# Altium footprint library Other.PcbLib: 13 footprints
Each footprint in its own frame and in the unit in brackets; x right, y up, seen from the top. Pads: shape width x height; smd on the part's side, far side on the other; paste and mask are expansions set on the pad; w line width, h text height; cw(c..) or ccw(c..) is an arc to the next point about the centre after c.
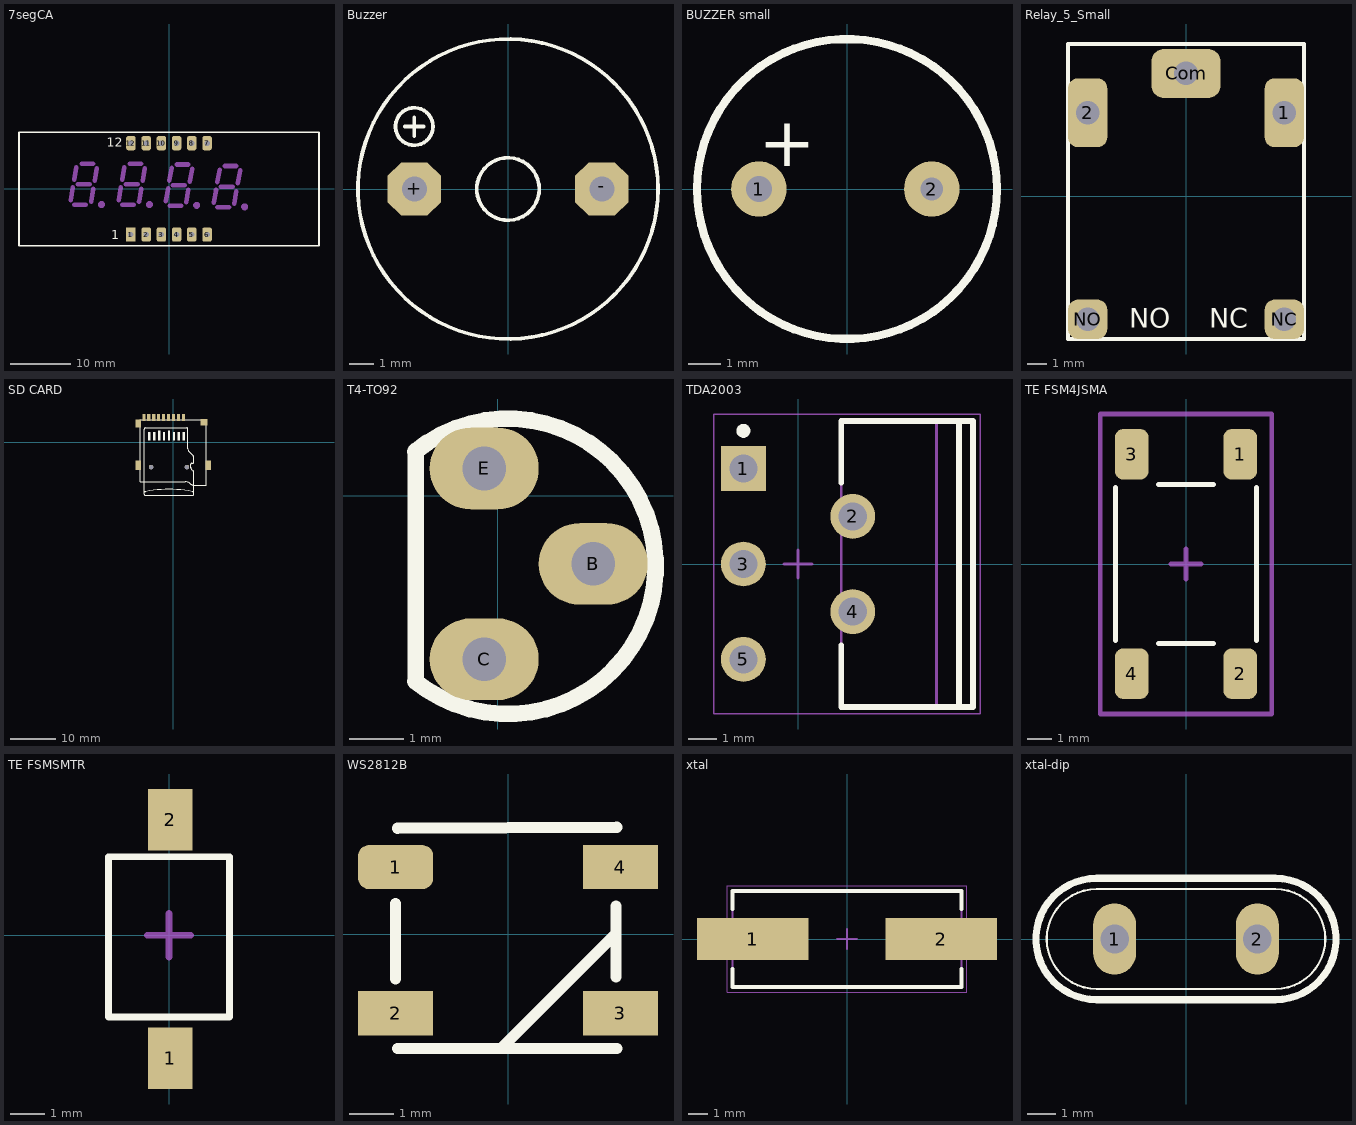
[diagram p0: the footprints below, top view; thin cyan lines are the x and y axes]

## 7segCA [mm] "7seg-CA; 12 Leads"
height 19
pads (12):
  rect 1.6x2.4 hole 0.9: 1(-6.35,-7.62)
  rrect50% 1.6x2.4 hole 0.9: 2(-3.81,-7.62) 3(-1.27,-7.62) 4(1.27,-7.62) 5(3.81,-7.62) 6(6.35,-7.62) 7(6.35,7.62) 8(3.81,7.62) 9(1.27,7.62) 10(-1.27,7.62) 11(-3.81,7.62) 12(-6.35,7.62)
Top Overlay:
  lines w0.254: 24.981,-9.525 -25.019,-9.525 -25.019,9.475 24.981,9.475 ; 25.019,-9.525 25.019,9.475
  text "12" at -10.414,6.985 h1.52
  text "1" at -9.652,-8.382 h1.52
Mechanical 1:
  circle w0.86: c12.622,-2.999 r0.15
  circle w0.86: c4.621,-2.745 r0.15
  circle w0.86: c-3.253,-2.618 r0.15
  circle w0.86: c-11.254,-2.618 r0.15
  lines w0.762: -16.414,-1.928 -16.034,0.242 ; -15.804,1.522 -15.444,3.602 ; -15.784,-2.668 -13.864,-2.668 ; -15.228,0.762 -13.22,0.762 ; -14.564,4.192 -12.674,4.192 ; -13.004,-2.128 -12.634,0.002 ; -12.404,1.322 -12.024,3.452 ; -8.413,-1.928 -8.033,0.242 ; -7.803,1.522 -7.443,3.602 ; -7.783,-2.668 -5.863,-2.668 ; -7.227,0.762 -5.219,0.762 ; -6.563,4.192 -4.673,4.192 ; -5.003,-2.128 -4.633,0.002 ; -4.403,1.322 -4.023,3.452 ; -0.539,-2.055 -0.159,0.115 ; 0.071,1.395 0.431,3.475 ; 0.091,-2.795 2.011,-2.795 ; 0.647,0.635 2.655,0.635 ; 1.311,4.065 3.201,4.065 ; 2.871,-2.255 3.241,-0.125 ; 3.471,1.195 3.851,3.325 ; 7.462,-2.309 7.842,-0.139 ; 8.072,1.141 8.432,3.221 ; 8.092,-3.049 10.012,-3.049 ; 8.648,0.381 10.656,0.381 ; 9.312,3.811 11.202,3.811 ; 10.872,-2.509 11.242,-0.379 ; 11.472,0.941 11.852,3.071
3D body "User Library-C-564 (7 segment 4 digit LED display).STEP": height 8, standoff -6.2, extent -25.2,-9.5 25.2,9.5

## Button-2pin [mm] "Switch"
height 6

## Buzzer [mil]
height 354.33
pads (2):
  oct 85x85 hole 40: +(-150,0) -(150,0)
Top Overlay:
  circle w6: c-150,100 r30
  circle w6: c0,0 r50
  circle w6: c0,0 r240
  lines w6: -165,100 -135,100 ; -150,85 -150,115
3D body "buzzer.stp": height 374.02, standoff -216.54, extent -234.65,-234.25 237.79,238.19

## BUZZER small [mm] "BUZZER"
pads (2):
  round 1.7 hole 0.8: 1(-2.7,0)
  round 1.7 hole 0.7: 2(2.6,0)
Top Overlay:
  circle w0.254: c0,0 r4.6
  text "+" at -2.7,0.7 h1.52
3D body "User Library-Buzzer_9mm.STEP": height 5.6, standoff -5.4, extent -4.55,-4.55 4.55,4.55

## Relay_5_Small [mm]
height 13
pads (5):
  rrect50% 2x3.5 hole 1.2: 1(5,4.25) 2(-5,4.25)
  rrect50% 3.5x2.5 hole 1.2: Com(0,6.25)
  rrect50% 2x2 hole 1.2: NC(5,-6.25) NO(-5,-6.25)
Top Overlay:
  lines w0.2: -6,-7.25 -6,7.75 6,7.75 6,-7.25 -6,-7.25
  text "NO" at -2.896,-6.68 h1
  text "NC" at 1.194,-6.68 h1
3D body "User Library-T74 4181.STEP": height 13.71, standoff -3.89, extent -6.131,-7.583 6.17,8.117

## SD CARD [mm] "T-FLASH PUSH-PUSH"
height 2
pads (15):
  round 1 hole 1 unplated: 0(-4.95,-5.5) 0(3.05,-5.5)
  rect 0.7x1.6 smd: 1(2.25,5.5) 2(1.15,5.5) 3(0.05,5.5) 4(-1.05,5.5) 5(-2.15,5.5) 6(-3.25,5.5) 7(-4.35,5.5) 8(-5.45,5.5) 9(-6.55,5.5)
  rect 1.2x1.8 smd: 10(-7.75,4.2)
  rect 1.2x2.2 smd: 11(-7.75,-5.1) 12(7.75,-5.1)
  rect 1.6x1.5 smd: 13(6.85,4.45)
Top Overlay:
  rectangle: 2.096,0.4 2.604,2.254
  rectangle: 0.996,0.4 1.504,2.254
  rectangle: -0.104,0.4 0.404,2.254
  rectangle: -1.204,0.4 -0.696,2.635
  rectangle: -2.304,0.4 -1.796,2.254
  rectangle: -3.404,0.4 -2.896,2.635
  rectangle: -4.504,0.4 -3.996,2.254
  rectangle: -5.604,0.4 -5.096,2.254
  lines w0.2: -6.437,-11.153 cw(c-6.027,-11.564) -6.148,-10.996 cw(c-0.95,-35.45) 4.248,-10.996 cw(c4.127,-11.564) 4.537,-11.153 ; 3.85,-5.622 3.85,-4.904 cw(c4.104,-4.904) 4.104,-4.65 4.296,-4.65 ccw(c4.296,-4.396) 4.55,-4.396 4.55,-3.36 ccw(c4.042,-3.36) 4.401,-3.001 3.55,-2.15 cw(c4.274,-1.426) 3.25,-1.426 3.25,2.946 ccw(c2.996,2.946) 2.996,3.2 -6.196,3.2 ccw(c-6.196,2.946) -6.45,2.946 -6.45,-11.546 ccw(c-6.196,-11.546) -6.196,-11.8 4.296,-11.8 ccw(c4.296,-11.546) 4.55,-11.546 4.55,-6.71 ; 3.85,-5.59 ccw(c4.358,-5.59) 3.999,-5.949 4.401,-6.351 cw(c4.042,-6.71) 4.55,-6.71
  lines w0.254: -7.375,-8.8 2.685,-8.8 cw(c2.685,-10.574) 3.94,-9.32 ccw(c4.375,-8.884) 4.375,-9.5 7.375,-9.5 7.375,5 -7.375,5 -7.375,-8.8
3D body "User Library-MEM2055-00-190-01-A_revG.STEP": height 1.85, standoff -0.6, extent -8.001,-9.53 7.999,5.72
3D body "SW3dPS-Micro_SD.STEP": height 1.7, standoff 0.72, extent -6.389,-11.811 4.611,3.189

## T4-TO92 [mm]
pads (3):
  oval 2x1.5 hole 0.8: B(1.75,-1.25) C(-0.25,-3) E(-0.25,0.5)
Top Overlay:
  lines w0.305: -1.519,-3.401 ccw(c0.186,-1.295) -1.519,0.81 ; -1.507,-3.412 -1.507,0.821
3D body "TO-92.stp": height 6.18, standoff -3, extent -1.272,-3.556 2.288,1.016

## TDA2003 [mm] "FM, 5-Leads, Body 10.2x4.7mm, Pitch 1.7mm"
height 21.2
pads (5):
  rect 1.6x1.6 hole 1: 1(-1.95,3.4)
  round 1.6 hole 1: 2(1.95,1.7) 3(-1.95,0) 4(1.95,-1.7) 5(-1.95,-3.4)
Top Overlay:
  circle w0.25: c-1.95,4.75 r0.125
  lines w0.2: 1.54,-2.9 1.54,-5.1 6.24,-5.1 6.24,5.1 1.54,5.1 1.54,2.9 ; 5.74,-5.1 5.74,5.1
Mechanical 13:
  lines w0.1: 4.94,-5.1 4.94,5.1 ; 1.54,-5.1 1.54,5.1 6.24,5.1 6.24,-5.1 1.54,-5.1
Mechanical 15:
  lines w0.05: -3,-5.35 -3,5.35 6.49,5.35 6.49,-5.35 -3,-5.35
  lines w0.1: -0.5,0 0.5,0 ; 0,-0.5 0,0.5
3D body "User Library-TO220-5-2.STEP": height 22, standoff -6.28, extent -2.13,-5.07 6.426,5.13

## TE FSM4JSMA [mm]
height 5.08
pads (4):
  rrect50% 1.4x2.1 smd: 1(2.25,4.55) 2(2.25,-4.55) 3(-2.25,4.55) 4(-2.25,-4.55)
Top Overlay:
  lines w0.2: -2.921,-3.175 -2.921,3.175 ; -1.143,-3.302 1.143,-3.302 ; -1.143,3.302 1.143,3.302 ; 2.921,-3.175 2.921,3.175
Mechanical 15:
  lines w0.2: -0.635,0 0.635,0 ; 0,-0.635 0,0.635 ; -3.556,-6.223 3.556,-6.223 3.556,6.223 -3.556,6.223 -3.556,-6.223
3D body "FSM4JSMA.STEP": height 5.08, standoff 0, extent -3,-5 3,5

## TE FSMSMTR [mm]
height 4.42
pads (2):
  rect 1.3x1.8 smd: 1(0.04,-3.61) 2(0.04,3.39)
Top Overlay:
  lines w0.2: -1.778,-2.4 1.778,-2.4 1.778,2.3 -1.778,2.3 -1.778,-2.4
Mechanical 15:
  lines w0.2: -0.635,0 0.635,0 ; 0,-0.635 0,0.635
3D body "FSMSMTR.STEP": height 4.42, standoff 0, extent -1.75,-4.984 1.75,4.985

## WS2812B [mm]
pads (4):
  rrect50% 1.7x1 smd: 1(-2.54,1.524)
  rect 1.7x1 smd: 2(-2.54,-1.778) 3(2.54,-1.778) 4(2.54,1.524)
Top Overlay:
  lines w0.254: -2.54,-1 -2.54,0.7 ; -2.5,-2.576 2.46,-2.576 ; -2.5,2.4 2.46,2.424 ; -0.098,-2.518 2.44,0.019 2.44,0.64 2.44,-0.96
3D body "WS2812_RGB_LED_updated.stp": height 1.5, standoff -0.2, extent -2.65,-2.575 2.7,2.375

## xtal [mm] "Crystal, 2-Leads, Body 4.70x11.40mm, Pitch 8.80mm, IPC Medium Density"
height 4.2
pads (2):
  rect 5.6x2.1 smd: 1(-4.75,0) 2(4.75,0)
Top Overlay:
  lines w0.2: -5.775,-1.5 -5.775,-2.425 5.775,-2.425 5.775,-1.5 ; -5.775,1.5 -5.775,2.425 5.775,2.425 5.775,1.5
Mechanical 13:
  lines w0.1: -5.775,-2.425 5.775,-2.425 5.775,2.425 -5.775,2.425 -5.775,-2.425
Mechanical 15:
  lines w0.05: -6.025,-2.675 6.025,-2.675 6.025,2.675 -6.025,2.675 -6.025,-2.675
  lines w0.1: -0.5,0 0.5,0 ; 0,-0.5 0,0.5
3D body "HC49US SMT Crystal.STEP": height 4.2, standoff 0, extent -6.35,-2.35 6.35,2.35

## xtal-dip [mil]
pads (2):
  oval 60x100 hole 40: 1(-100,0) 2(100,0)
Top Overlay:
  lines w3: -125,-70 cw(c-125,0) -125,70 125,70 cw(c125,0) 125,-70 -125,-70
  lines w10: -125,-85 cw(c-125,0) -125,85 125,85 cw(c125,0) 125,-85 -125,-85
3D body "User Library-HC49S.STEP": height 152.73, standoff -67.74, extent -218.55,-91.53 221.31,92.42